# Altium schematic symbol library Oscillators.SchLib: 1 symbol
Pins are listed as number, name and electrical type; pins without a type are passive.

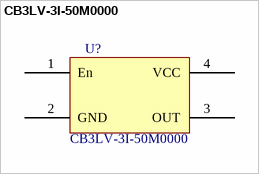
[diagram p0: symbol CB3LV-3I-50M0000]

## CB3LV-3I-50M0000
designator U?
OSCILLATOR XO 50MHZ 3.3V SMD; Manufacturer: CTS-Frequency Controls; Function: Tri-State (Output Enable); Output: HCMOS, TTL; Frequency Stability: ±50ppm; Current - Supply (Max): 40mA; Current - Supply (Disable) (Max): 10µA; Supplier 1: Digi-Key; Manufacturer Part Number: CB3LV-3I-50M0000; RoHS: RoHS Compliant; Category: Crystals and Oscillators; Stock 1: 15552; Pricing 1: 1=1.4, 10=1.337, 50=1.3072, 100=1.1179, 500=1.0883 (USD); Packaging: Cut Tape (CT); Type: XO (Standard); Frequency: 50MHz; Voltage - Supply: 3.3V; Operating Temperature: -40°C ~ 85°C; Ratings: -; Mounting Type: Surface Mount; Size / Dimension: 0.276" L x 0.197" W (7.00mm x 5.00mm); Height: 0.067" (1.70mm); Package / Case: 4-SMD, No Lead (DFN, LCC); ComponentLink1URL: http://www.ctscorp.com/components/Datasheets/008-0256-0.pdf; ComponentLink1Description: http://www.ctscorp.com/components/Datasheets/008-0256-0.pdf; Supplier Part Number 1: CTX327LVCT-ND
footprint LCCS508P500X700X160-4N (LCC, 4-Pins, Body 5.2x7.2mm (max), Pitch 5.08mm, IPC Medium Density)
pins: 1 En, 2 GND, 3 OUT, 4 VCC